# Altium footprint library machada_IC_footprints.PcbLib: 29 footprints (part 2 of 2)
Each footprint in its own frame and in the unit in brackets; x right, y up, seen from the top. Pads: shape width x height; smd on the part's side, far side on the other; paste and mask are expansions set on the pad; w line width, h text height; cw(c..) or ccw(c..) is an arc to the next point about the centre after c.
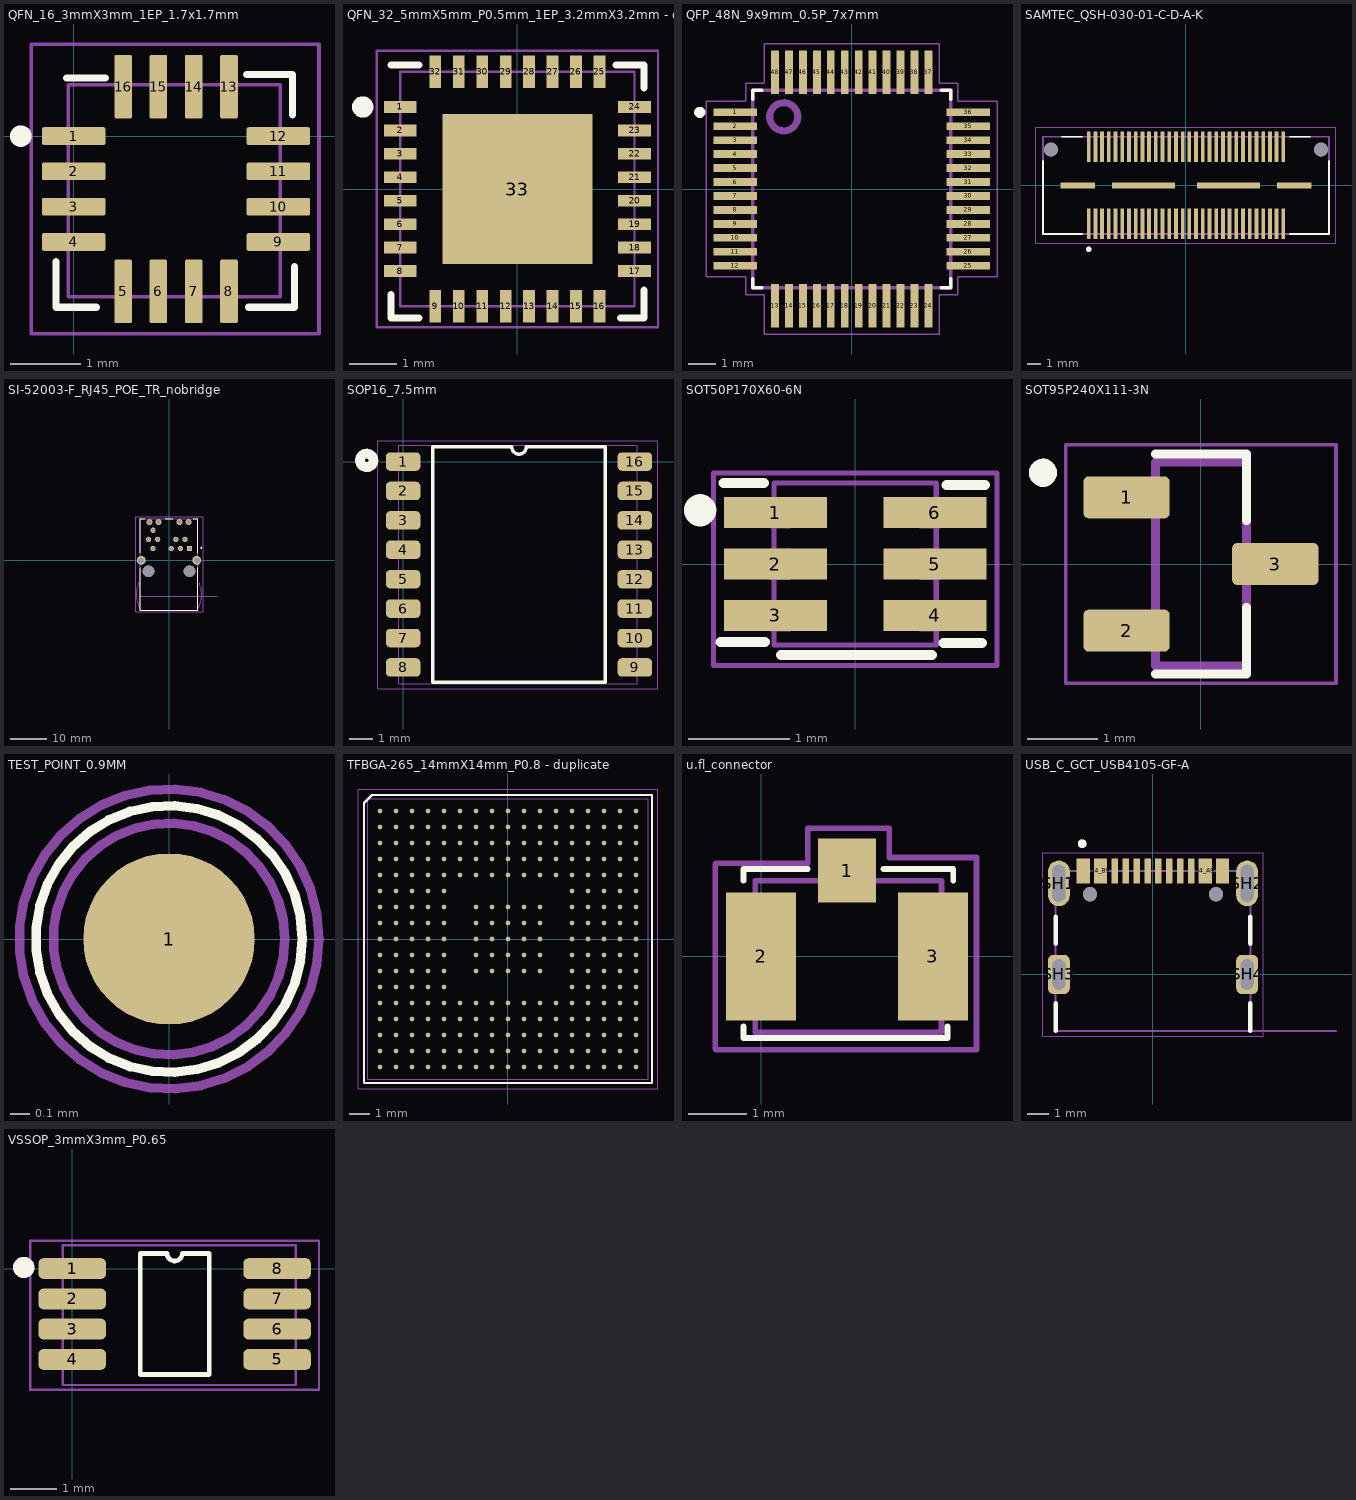
[diagram p1: the footprints below, top view; thin cyan lines are the x and y axes]

## QFN_16_3mmX3mm_1EP_1.7x1.7mm [mm]
pads (16):
  rrect20% 0.9x0.25 smd paste+0 mask+0.06: 1(0,0) 2(0,-0.5) 3(0,-1) 4(0,-1.5) 9(2.9,-1.5) 10(2.9,-1) 11(2.9,-0.5) 12(2.9,0)
  rrect20% 0.25x0.9 smd paste+0 mask+0.06: 5(0.7,-2.2) 6(1.2,-2.2) 7(1.7,-2.2) 8(2.2,-2.2) 13(2.2,0.7) 14(1.7,0.7) 15(1.2,0.7) 16(0.7,0.7)
Top Overlay:
  circle w0.254: c-0.75,0 r0.025
  lines w0.1: -0.25,-1.775 -0.25,-2.425 0.325,-2.425 ; -0.1,0.825 0.45,0.825 ; 2.45,0.875 3.1,0.875 3.1,0.3 ; 2.475,-2.425 3.125,-2.425 3.125,-1.85
  text ".designator" at -1.621,1.487 h1.52
Top Courtyard:
  lines w0.05: -0.6,-2.8 3.475,-2.8 3.475,1.3 -0.6,1.3 -0.6,-2.8
Top Assembly:
  lines w0.05: -0.075,-2.275 2.925,-2.275 2.925,0.725 -0.075,0.725 -0.075,-2.275
  text ".designator" at -1.746,1.062 h1.52
3D body "QFN-16 (3x3).stp": height 0.81, standoff -0.05, extent -0.075,-2.275 2.925,0.725

## QFN_32_5mmX5mm_P0.5mm_1EP_3.2mmX3.2mm - duplicate [mm]
pads (33):
  rect 0.7x0.25 smd: 1(-2.5,1.75) 2(-2.5,1.25) 3(-2.5,0.75) 4(-2.5,0.25) 5(-2.5,-0.25) 6(-2.5,-0.75) 7(-2.5,-1.25) 8(-2.5,-1.75) 17(2.5,-1.75) 18(2.5,-1.25) 19(2.5,-0.75) 20(2.5,-0.25) 21(2.5,0.25) 22(2.5,0.75) 23(2.5,1.25) 24(2.5,1.75)
  rect 0.25x0.7 smd: 9(-1.75,-2.5) 10(-1.25,-2.5) 11(-0.75,-2.5) 12(-0.25,-2.5) 13(0.25,-2.5) 14(0.75,-2.5) 15(1.25,-2.5) 16(1.75,-2.5) 25(1.75,2.5) 26(1.25,2.5) 27(0.75,2.5) 28(0.25,2.5) 29(-0.25,2.5) 30(-0.75,2.5) 31(-1.25,2.5) 32(-1.75,2.5)
  rect 3.2x3.2 smd: 33(0,0)
Top Overlay:
  circle w0.254: c-3.3,1.75 r0.1
  lines w0.15: -2.7,-2.25 -2.7,-2.75 -2.1,-2.75 ; -2.7,2.65 -2.1,2.65 ; 2.1,2.65 2.7,2.65 2.7,2.15 ; 2.2,-2.75 2.7,-2.75 2.7,-2.15
  text ".designator" at -4.646,3.662 h1.52
Top Courtyard:
  lines w0.05: -3,-2.95 3,-2.95 3,2.95 -3,2.95 -3,-2.95
Top Assembly:
  lines w0.05: -2.5,-2.5 2.5,-2.5 2.5,2.5 -2.5,2.5 -2.5,-2.5
  text ".designator" at -3.546,3.462 h1.52
3D body "QFN-32_5x5mm.stp": height 1.05, standoff 0, extent -2.5,-2.5 2.5,2.5

## QFP_48N_9x9mm_0.5P_7x7mm [mm]
pads (48):
  rect 1.56x0.28 smd: 1(-4.18,2.75) 2(-4.18,2.25) 3(-4.18,1.75) 4(-4.18,1.25) 5(-4.18,0.75) 6(-4.18,0.25) 7(-4.18,-0.25) 8(-4.18,-0.75) 9(-4.18,-1.25) 10(-4.18,-1.75) 11(-4.18,-2.25) 12(-4.18,-2.75) 25(4.18,-2.75) 26(4.18,-2.25) 27(4.18,-1.75) 28(4.18,-1.25) 29(4.18,-0.75) 30(4.18,-0.25) 31(4.18,0.25) 32(4.18,0.75) 33(4.18,1.25) 34(4.18,1.75) 35(4.18,2.25) 36(4.18,2.75)
  rect 0.28x1.56 smd: 13(-2.75,-4.18) 14(-2.25,-4.18) 15(-1.75,-4.18) 16(-1.25,-4.18) 17(-0.75,-4.18) 18(-0.25,-4.18) 19(0.25,-4.18) 20(0.75,-4.18) 21(1.25,-4.18) 22(1.75,-4.18) 23(2.25,-4.18) 24(2.75,-4.18) 37(2.75,4.18) 38(2.25,4.18) 39(1.75,4.18) 40(1.25,4.18) 41(0.75,4.18) 42(0.25,4.18) 43(-0.25,4.18) 44(-0.75,4.18) 45(-1.25,4.18) 46(-1.75,4.18) 47(-2.25,4.18) 48(-2.75,4.18)
Top Overlay:
  circle w0.2: c-5.45,2.75 r0.1
  lines w0.127: -3.55,-3.22 -3.55,-3.55 -3.22,-3.55 ; -3.55,3.22 -3.55,3.55 -3.22,3.55 ; 3.22,-3.55 3.55,-3.55 3.55,-3.22 ; 3.22,3.55 3.55,3.55 3.55,3.22
Top Courtyard:
  lines w0.05: -3.14,-5.21 3.14,-5.21 3.14,-3.8 3.8,-3.8 3.8,-3.14 5.21,-3.14 5.21,3.14 3.8,3.14 3.8,3.8 3.14,3.8 3.14,5.21 -3.14,5.21 -3.14,3.8 -3.8,3.8 -3.8,3.14 -5.21,3.14 -5.21,-3.14 -3.8,-3.14 -3.8,-3.8 -3.14,-3.8
Bottom Courtyard:
  drawing of 48 lines, arcs and shapes, not listed
Top Assembly:
  circle w0.254: c-2.438,2.591 r0.504
  lines w0.127: -3.55,-3.55 3.55,-3.55 3.55,3.55 -3.55,3.55 -3.55,-3.55
Bottom Assembly:
  lines w0.05: -3.14,-5.21 -3.14,-3.8
3D body "QFP_48_0.5P_9X9.STEP": height 1.6, standoff 0, extent -4.5,-4.5 4.5,4.5

## SAMTEC_QSH-030-01-C-D-A-K [mm]
height 3.25
pads (66):
  rect 0.279x2.27 smd: 1(-7.25,-2.865) 2(-7.25,2.865) 3(-6.75,-2.865) 4(-6.75,2.865) 5(-6.25,-2.865) 6(-6.25,2.865) 7(-5.75,-2.865) 8(-5.75,2.865) 9(-5.25,-2.865) 10(-5.25,2.865) 11(-4.75,-2.865) 12(-4.75,2.865) 13(-4.25,-2.865) 14(-4.25,2.865) 15(-3.75,-2.865) 16(-3.75,2.865) 17(-3.25,-2.865) 18(-3.25,2.865) 19(-2.75,-2.865) 20(-2.75,2.865) 21(-2.25,-2.865) 22(-2.25,2.865) 23(-1.75,-2.865) 24(-1.75,2.865) 25(-1.25,-2.865) 26(-1.25,2.865) 27(-0.75,-2.865) 28(-0.75,2.865) 29(-0.25,-2.865) 30(-0.25,2.865) 31(0.25,-2.865) 32(0.25,2.865) 33(0.75,-2.865) 34(0.75,2.865) 35(1.25,-2.865) 36(1.25,2.865) 37(1.75,-2.865) 38(1.75,2.865) 39(2.25,-2.865) 40(2.25,2.865) 41(2.75,-2.865) 42(2.75,2.865) 43(3.25,-2.865) 44(3.25,2.865) 45(3.75,-2.865) 46(3.75,2.865) 47(4.25,-2.865) 48(4.25,2.865) 49(4.75,-2.865) 50(4.75,2.865) 51(5.25,-2.865) 52(5.25,2.865) 53(5.75,-2.865) 54(5.75,2.865) 55(6.25,-2.865) 56(6.25,2.865) 57(6.75,-2.865) 58(6.75,2.865) 59(7.25,-2.865) 60(7.25,2.865)
  rect 2.54x0.43 smd: S1(-8.065,0) S4(8.065,0)
  rect 4.7x0.43 smd: S2(-3.175,0) S3(3.175,0)
  round 1.02 hole 1.02 unplated: ""(-10.065,2.67) ""(10.065,2.67)
Top Overlay:
  circle w0.2: c-7.25,-4.75 r0.1
  lines w0.127: -10.655,1.847 -10.655,-3.62 -7.75,-3.62 ; -9.242,3.62 -7.75,3.62 ; 7.75,-3.62 10.655,-3.62 10.655,1.847 ; 7.75,3.62 9.242,3.62
  text ".designator" at -7.112,5.334 h1.52
Top Courtyard:
  lines w0.05: -11.176,-4.318 11.176,-4.318 11.176,4.318 -11.176,4.318 -11.176,-4.318
Bottom Courtyard:
  circle w0.2: c-7.25,-4.75 r0.1
  lines w0.127: -10.655,-3.62 10.655,-3.62 10.655,3.62 -10.655,3.62 -10.655,-3.62
Top Assembly:
  text ".designator" at -7.62,4.826 h1.52
3D body "QSH-030-01-C-D-A-K.stp": height 3.32, standoff -0.8, extent -10.643,-4.14 10.668,4.115

## SI-52003-F_RJ45_POE_TR_nobridge [mm]
pads (17):
  rect 1.478x1.478 hole 0.97: 1(5.715,3.3)
  round 1.478 hole 0.97: 2(4.445,5.84) 3(3.175,3.3) 4(1.905,5.84) 5(0.635,3.3) 8(-3.175,5.84) 9(-4.445,3.3) 10(-5.715,5.84) 11(-4.445,8.38)
  round 1.65 hole 1.1: A1(-5.465,10.67) A2(2.925,10.67) C1(-2.925,10.67) C2(5.465,10.67)
  round 2.475 hole 1.65: S1(-7.745,0) S2(7.745,0)
  round 3.25 hole 3.25 unplated: ""(-5.715,-3.05) ""(5.715,-3.05)
Top Overlay:
  circle w0.2: c9,3.5 r0.1
  lines w0.127: -8.065,-2.04 -8.065,-13.84 8.065,-13.84 8.065,-2.04 ; -8.065,2.06 -8.065,11.56 -6.8,11.56 ; -1,11.56 1,11.56 ; 6.8,11.56 8.065,11.56 8.065,2.06
Top Courtyard:
  lines w0.05: 8.315,-1.43 8.315,-0.508
  lines w0.15: -9.271,-14.351 9.525,-14.351 9.525,12.192 -9.271,12.192 -9.271,-14.351
Bottom Courtyard:
  circle w0.2: c9,3.5 r0.1
Top Assembly:
  lines w0.127: -9.027,-8.28 ccw(c-24.602,-1.017) -8.353,-6.612 ; -8.993,-8.221 ccw(c-0.899,-9.503) -8.201,-13.223 ; -8.501,-6.324 cw(c-8.779,-6.622) -8.375,-6.672 ; -8.2,-13.225 -8.065,-13.84 ; 8.2,-13.225 8.065,-13.84 ; 8.201,-13.223 ccw(c0.899,-9.503) 8.993,-8.221 ; 8.353,-6.612 ccw(c24.602,-1.017) 9.027,-8.28 ; 8.375,-6.672 cw(c8.779,-6.622) 8.501,-6.324 ; 13.5,-10.03 -8.065,-10.03 ; -8.065,-13.84 -8.065,-10.03 ; -8.065,-13.84 8.065,-13.84 ; -8.065,-10.03 -8.065,11.56 8.065,11.56 8.065,-13.84
  text "PCB EDGE" at 9.652,-11.557 h1.02
3D body "SI-52003-F--3DModel-STEP-56544.STEP": height 14.83, standoff -3.43, extent -8.992,-13.97 8.991,11.43

## SOP16_7.5mm [mm] "w=7.5mm l=10.3mm"
pads (16):
  rrect50% 1.5x0.8 smd: 1(0,0) 2(0,-1.27) 3(0,-2.54) 4(0,-3.81) 5(0,-5.08) 6(0,-6.35) 7(0,-7.62) 8(0,-8.89) 9(10,-8.89) 10(10,-7.62) 11(10,-6.35) 12(10,-5.08) 13(10,-3.81) 14(10,-2.54) 15(10,-1.27) 16(10,0)
Top Overlay:
  circle w0.254: c-1.575,0.05 r0.206
  circle w0.254: c-1.575,0.05 r0.376
  lines w0.15: 1.285,-9.525 1.285,0.635 4.683,0.635 ccw(c5,0.635) 5.318,0.635 8.715,0.635 8.715,-9.525 1.285,-9.525
  text ".designator" at -1.946,1.762 h1.52
Top Courtyard:
  lines w0.05: -1.1,-9.8 11,-9.8 11,0.9 -1.1,0.9 -1.1,-9.8
Top Assembly:
  lines w0.05: -0.2,-9.6 10.1,-9.6 10.1,0.7 -0.2,0.7 -0.2,-9.6
  text ".designator" at -2.746,2.862 h1.52
3D body "SO16 Wide 7.50mm.step": height 2.65, standoff 0, extent -0.2,-9.6 10.1,0.7

## SOT50P170X60-6N [mil]
pads (6):
  rect 40x12 smd mask+2.36: 1(-31,20) 2(-31,0) 3(-31,-20) 4(31,-20) 5(31,0) 6(31,20)
Top Overlay:
  circle w10: c-60.24,20.87 r1.25
  lines w3.94: -52.36,-30.32 -35.04,-30.32 ; -51.18,31.5 -35.43,31.5 ; -28.74,-35.43 29.92,-35.43 ; 34.33,-30.76 49.29,-30.76 ; 35.43,30.71 50.39,30.71
  text ".designator" at -131.73,49.68 h60
Top Courtyard:
  lines w1.97: -55.12,-39.37 55.12,-39.37 55.12,35.43 -55.12,35.43 -55.12,-39.37
Bottom Courtyard:
  lines w0: -25,-26 -33,-26 -33,-14 -25,-14 ; -25,-6 -33,-6 -33,6 -25,6 ; -25,14 -33,14 -33,26 -25,26 ; 25,-26 33,-26 33,-14 25,-14 ; 25,-6 33,-6 33,6 25,6 ; 25,14 33,14 33,26 25,26
Top Assembly:
  lines w1.97: -31.5,-31.5 31.5,-31.5 31.5,31.5 -31.5,31.5 -31.5,-31.5
  text ".designator" at -143.54,-111.74 h60
3D body "SOT-563.STEP": height 24.12, standoff 0.5, extent -31.5,-31.5 31.5,31.5

## SOT95P240X111-3N [mm]
pads (3):
  rrect25% 1.23x0.6 smd: 1(-1.06,0.95) 2(-1.06,-0.95) 3(1.06,0)
Top Overlay:
  circle w0.2: c-2.25,1.3 r0.1
  lines w0.127: -0.65,-1.57 0.65,-1.57 0.65,-0.62 ; -0.65,1.57 0.65,1.57 0.65,0.62
Bottom Courtyard:
  circle w0.2: c-2.25,1.3 r0.1
  lines w0.127: -0.65,-1.45 0.65,-1.45 0.65,1.45 -0.65,1.45 -0.65,-1.45
Bottom Assembly:
  lines w0.05: -1.925,-1.7 -1.925,1.7 1.925,1.7 1.925,-1.7 -1.925,-1.7
3D body "step_temp.STEP": height 1.15, standoff -0.05, extent -1.2,-1.46 1.2,1.46

## TEST_POINT_0.9MM [mm]
pads (1):
  round 0.9 smd: 1(0,0)
Top Overlay:
  circle w0.05: c0,0 r0.7
Top Courtyard:
  circle w0.05: c0,0 r0.787
Top Assembly:
  circle w0.05: c0,0 r0.608

## TFBGA-265_14mmX14mm_P0.8 - duplicate [mm]
pads (265):
  round 0.23 smd: A1(-6.4,6.4) A2(-5.6,6.4) A3(-4.8,6.4) A4(-4,6.4) A5(-3.2,6.4) A6(-2.4,6.4) A7(-1.6,6.4) A8(-0.8,6.4) A9(0,6.4) A10(0.8,6.4) A11(1.6,6.4) A12(2.4,6.4) A13(3.2,6.4) A14(4,6.4) A15(4.8,6.4) A16(5.6,6.4) A17(6.4,6.4) B1(-6.4,5.6) B2(-5.6,5.6) B3(-4.8,5.6) B4(-4,5.6) B5(-3.2,5.6) B6(-2.4,5.6) B7(-1.6,5.6) B8(-0.8,5.6) B9(0,5.6) B10(0.8,5.6) B11(1.6,5.6) B12(2.4,5.6) B13(3.2,5.6) B14(4,5.6) B15(4.8,5.6) B16(5.6,5.6) B17(6.4,5.6) C1(-6.4,4.8) C2(-5.6,4.8) C3(-4.8,4.8) C4(-4,4.8) C5(-3.2,4.8) C6(-2.4,4.8) C7(-1.6,4.8) C8(-0.8,4.8) C9(0,4.8) C10(0.8,4.8) C11(1.6,4.8) C12(2.4,4.8) C13(3.2,4.8) C14(4,4.8) C15(4.8,4.8) C16(5.6,4.8) C17(6.4,4.8) D1(-6.4,4) D2(-5.6,4) D3(-4.8,4) D4(-4,4) D5(-3.2,4) D6(-2.4,4) D7(-1.6,4) D8(-0.8,4) D9(0,4) D10(0.8,4) D11(1.6,4) D12(2.4,4) D13(3.2,4) D14(4,4) D15(4.8,4) D16(5.6,4) D17(6.4,4) E1(-6.4,3.2) E2(-5.6,3.2) E3(-4.8,3.2) E4(-4,3.2) E5(-3.2,3.2) E6(-2.4,3.2) E7(-1.6,3.2) E8(-0.8,3.2) E9(0,3.2) E10(0.8,3.2) E11(1.6,3.2) E12(2.4,3.2) E13(3.2,3.2) E14(4,3.2) E15(4.8,3.2) E16(5.6,3.2) E17(6.4,3.2) F1(-6.4,2.4) F2(-5.6,2.4) F3(-4.8,2.4) F4(-4,2.4) F5(-3.2,2.4) F13(3.2,2.4) F14(4,2.4) F15(4.8,2.4) F16(5.6,2.4) F17(6.4,2.4) G1(-6.4,1.6) G2(-5.6,1.6) G3(-4.8,1.6) G4(-4,1.6) G5(-3.2,1.6) G7(-1.6,1.6) G8(-0.8,1.6) G9(0,1.6) G10(0.8,1.6) G11(1.6,1.6) G13(3.2,1.6) G14(4,1.6) G15(4.8,1.6) G16(5.6,1.6) G17(6.4,1.6) H1(-6.4,0.8) H2(-5.6,0.8) H3(-4.8,0.8) H4(-4,0.8) H5(-3.2,0.8) H7(-1.6,0.8) H8(-0.8,0.8) H9(0,0.8) H10(0.8,0.8) H11(1.6,0.8) H13(3.2,0.8) H14(4,0.8) H15(4.8,0.8) H16(5.6,0.8) H17(6.4,0.8) J1(-6.4,0) J2(-5.6,0) J3(-4.8,0) J4(-4,0) J5(-3.2,0) J7(-1.6,0) J8(-0.8,0) J9(0,0) J10(0.8,0) J11(1.6,0) J13(3.2,0) J14(4,0) J15(4.8,0) J16(5.6,0) J17(6.4,0) K1(-6.4,-0.8) K2(-5.6,-0.8) K3(-4.8,-0.8) K4(-4,-0.8) K5(-3.2,-0.8) K7(-1.6,-0.8) K8(-0.8,-0.8) K9(0,-0.8) K10(0.8,-0.8) K11(1.6,-0.8) K13(3.2,-0.8) K14(4,-0.8) K15(4.8,-0.8) K16(5.6,-0.8) K17(6.4,-0.8) L1(-6.4,-1.6) L2(-5.6,-1.6) L3(-4.8,-1.6) L4(-4,-1.6) L5(-3.2,-1.6) L7(-1.6,-1.6) L8(-0.8,-1.6) L9(0,-1.6) L10(0.8,-1.6) L11(1.6,-1.6) L13(3.2,-1.6) L14(4,-1.6) L15(4.8,-1.6) L16(5.6,-1.6) L17(6.4,-1.6) M1(-6.4,-2.4) M2(-5.6,-2.4) M3(-4.8,-2.4) M4(-4,-2.4) M5(-3.2,-2.4) M13(3.2,-2.4) M14(4,-2.4) M15(4.8,-2.4) M16(5.6,-2.4) M17(6.4,-2.4) N1(-6.4,-3.2) N2(-5.6,-3.2) N3(-4.8,-3.2) N4(-4,-3.2) N5(-3.2,-3.2) N6(-2.4,-3.2) N7(-1.6,-3.2) N8(-0.8,-3.2) N9(0,-3.2) N10(0.8,-3.2) N11(1.6,-3.2) N12(2.4,-3.2) N13(3.2,-3.2) N14(4,-3.2) N15(4.8,-3.2) N16(5.6,-3.2) N17(6.4,-3.2) P1(-6.4,-4) P2(-5.6,-4) P3(-4.8,-4) P4(-4,-4) P5(-3.2,-4) P6(-2.4,-4) P7(-1.6,-4) P8(-0.8,-4) P9(0,-4) P10(0.8,-4) P11(1.6,-4) P12(2.4,-4) P13(3.2,-4) P14(4,-4) P15(4.8,-4) P16(5.6,-4) P17(6.4,-4) R1(-6.4,-4.8) R2(-5.6,-4.8) R3(-4.8,-4.8) R4(-4,-4.8) R5(-3.2,-4.8) R6(-2.4,-4.8) R7(-1.6,-4.8) R8(-0.8,-4.8) R9(0,-4.8) R10(0.8,-4.8) R11(1.6,-4.8) R12(2.4,-4.8) R13(3.2,-4.8) R14(4,-4.8) R15(4.8,-4.8) R16(5.6,-4.8) R17(6.4,-4.8) T1(-6.4,-5.6) T2(-5.6,-5.6) T3(-4.8,-5.6) T4(-4,-5.6) T5(-3.2,-5.6) T6(-2.4,-5.6) T7(-1.6,-5.6) T8(-0.8,-5.6) T9(0,-5.6) T10(0.8,-5.6) T11(1.6,-5.6) T12(2.4,-5.6) T13(3.2,-5.6) T14(4,-5.6) T15(4.8,-5.6) T16(5.6,-5.6) T17(6.4,-5.6) U1(-6.4,-6.4) U2(-5.6,-6.4) U3(-4.8,-6.4) U4(-4,-6.4) U5(-3.2,-6.4) U6(-2.4,-6.4) U7(-1.6,-6.4) U8(-0.8,-6.4) U9(0,-6.4) U10(0.8,-6.4) U11(1.6,-6.4) U12(2.4,-6.4) U13(3.2,-6.4) U14(4,-6.4) U15(4.8,-6.4) U16(5.6,-6.4) U17(6.4,-6.4)
Top Overlay:
  lines w0.1: -7.2,-7.2 -7.2,6.8 -6.8,7.2 7.2,7.2 7.2,-7.2 -7.2,-7.2
  text ".designator" at -7.246,8.262 h1.52
Top Courtyard:
  lines w0.05: -7.5,-7.5 7.5,-7.5 7.5,7.5 -7.5,7.5 -7.5,-7.5
Top Assembly:
  lines w0.05: -7,-7 7,-7 7,7 -7,7 -7,-7
  text ".designator" at -7.246,7.762 h1.52
3D body "TFBGA_265_14X14mm_P0.8.stp": height 1.1, standoff 0, extent -7,-7 7,7

## u.fl_connector [mm]
pads (3):
  rect 1x1.1 smd: 1(1.475,1.475)
  rect 1.2x2.2 smd: 2(0,0) 3(2.95,0)
Top Overlay:
  lines w0.1: -0.3,-1.2 -0.3,-1.4 3.2,-1.4 3.2,-1.2 ; -0.3,1.3 -0.3,1.5 0.8,1.5 ; 2.1,1.5 3.3,1.5 3.3,1.3
Top Courtyard:
  lines w0.1: -0.787,-1.587 -0.775,-1.6 3.7,-1.6 3.7,1.7 2.2,1.7 2.2,2.2 0.8,2.2 0.8,1.6 -0.775,1.6 -0.787,1.587 -0.787,1.245 -0.787,-1.587
Top Assembly:
  lines w0.1: -0.1,-1.3 -0.1,1.3 3.1,1.3 3.1,-1.3 -0.1,-1.3
3D body "u.fl_connector_CONUFL001-SMD.stp": height 1.26, standoff 0.01, extent -0.049,-1.404 2.949,1.695

## USB_C_GCT_USB4105-GF-A [mm] "SIMILAR TO MC-311D"
height 3.31
pads (18):
  rect 0.6x1.15 smd: A1_B12(-3.2,4.755) A4_B9(-2.4,4.755) B1_A12(3.2,4.755) B4_A9(2.4,4.755)
  rect 0.3x1.15 smd: A5(-1.25,4.755) A6(-0.25,4.755) A7(0.25,4.755) A8(1.25,4.755) B5(1.75,4.755) B6(0.75,4.755) B7(-0.75,4.755) B8(-1.75,4.755)
  oval 1x2.1 hole 0.6 slot 1.7 at 90 deg: SH1(-4.32,4.18) SH2(4.32,4.18)
  rrect50% 1x1.8 hole 0.6 slot 1.4 at 90 deg: SH3(-4.32,0) SH4(4.32,0)
  round 0.65 hole 0.65 unplated: ""(-2.89,3.68) ""(2.89,3.68)
Top Overlay:
  circle w0.2: c-3.25,6 r0.1
  lines w0.2: -4.47,-2.6 -4.47,-1.32 ; -4.47,1.4 -4.47,2.65 ; 4.47,-2.6 4.47,-1.32 ; 4.47,1.4 4.47,2.65
Bottom Courtyard:
  circle w0.2: c-3.25,6 r0.1
  lines w0.1: 8.4,-2.6 4.47,-2.6 ; 4.47,-2.6 -4.47,-2.6 -4.47,4.75 4.47,4.75 4.47,-2.6
  text "PCB EDGE" at 5.4,-2.5 h0.41
Bottom Assembly:
  lines w0.05: -5.07,-2.85 5.07,-2.85 5.07,5.58 -5.07,5.58 -5.07,-2.85
3D body "step_temp.STEP": height 3.31, standoff -1.1, extent -4.47,-2.6 4.47,5.11

## VSSOP_3mmX3mm_P0.65 [mm]
pads (8):
  rrect50% 1.45x0.45 smd mask+0.07: 1(0,0) 2(0,-0.65) 3(0,-1.3) 4(0,-1.95) 5(4.4,-1.95) 6(4.4,-1.3) 7(4.4,-0.65) 8(4.4,0)
Top Overlay:
  circle w0.254: c-1.041,0.025 r0.102
  lines w0.1: 1.46,-2.275 2.94,-2.275 2.94,0.325 2.362,0.325 cw(c2.2,0.325) 2.037,0.325 1.46,0.325 1.46,-2.275
  text ".designator" at -1.245,-4.191 h1.52
Top Courtyard:
  lines w0.05: -0.9,-2.6 5.3,-2.6 5.3,0.6 -0.9,0.6 -0.9,-2.6
Top Assembly:
  lines w0.05: -0.2,-2.5 4.8,-2.5 4.8,0.5 -0.2,0.5 -0.2,-2.5
  text ".designator" at -1.246,0.762 h1.52
3D body "vssop_3x3_P0.65.stp": height 1.1, standoff 0, extent -0.151,-2.499 4.751,0.499